# Altium footprint library Omron_G6SK-2G.PcbLib: 1 footprints
Each footprint in its own frame and in the unit in brackets; x right, y up, seen from the top. Pads: shape width x height; smd on the part's side, far side on the other; paste and mask are expansions set on the pad; w line width, h text height; cw(c..) or ccw(c..) is an arc to the next point about the centre after c.
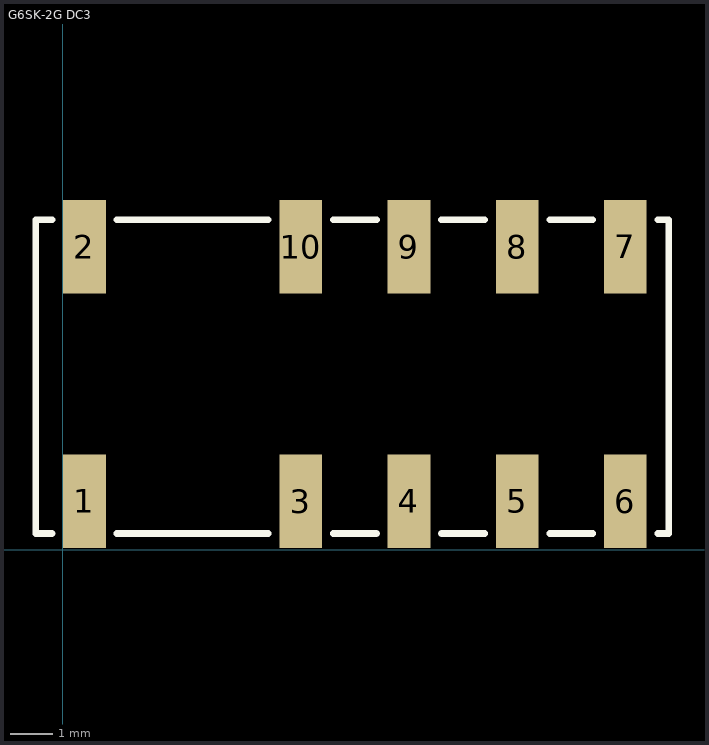
[diagram p0: the footprint, top view; thin cyan lines are the x and y axes]

## G6SK-2G DC3 [mm] "RELAY TELECOM DPDT 2A 3V"
pads (10):
  rect 1x2.2 smd: 1(0.508,1.143) 2(0.508,7.112) 3(5.588,1.143) 4(8.128,1.143) 5(10.668,1.143) 6(13.208,1.143) 7(13.208,7.112) 8(10.668,7.112) 9(8.128,7.112) 10(5.588,7.112)
Top Overlay:
  lines w0.155: -0.254,0.381 -0.635,0.381 -0.635,7.747 -0.254,7.747 ; 1.27,0.381 4.826,0.381 ; 1.27,7.747 4.826,7.747 ; 6.35,0.381 7.366,0.381 ; 6.35,7.747 7.366,7.747 ; 8.89,0.381 9.906,0.381 ; 8.89,7.747 9.906,7.747 ; 11.43,0.381 12.446,0.381 ; 11.43,7.747 12.446,7.747 ; 13.97,0.381 14.224,0.381 14.224,2.095 14.224,5.779 14.224,7.747 13.97,7.747